# Altium schematic symbol library Renesas.SchLib: 1 symbol
Pins are listed as number, name and electrical type; pins without a type are passive.

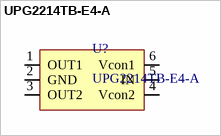
[diagram p0: symbol UPG2214TB-E4-A]

## UPG2214TB-E4-A
designator U?
GaAs Integrated Circuit for L, S-Band SPDT Switch; Value: UPG2214TB-E4-A
footprint SOT363-6L (SOT363, 6-Leads, Body 2x1.3mm, Pitch 0.65mm, Lead Span 2.1mm, IPC High Density)
pins: 1 OUT1, 2 GND, 3 OUT2, 4 Vcon2, 5 IN, 6 Vcon1